# EAGLE library part STM32L476MEY6 (library circuit_tree)
IC
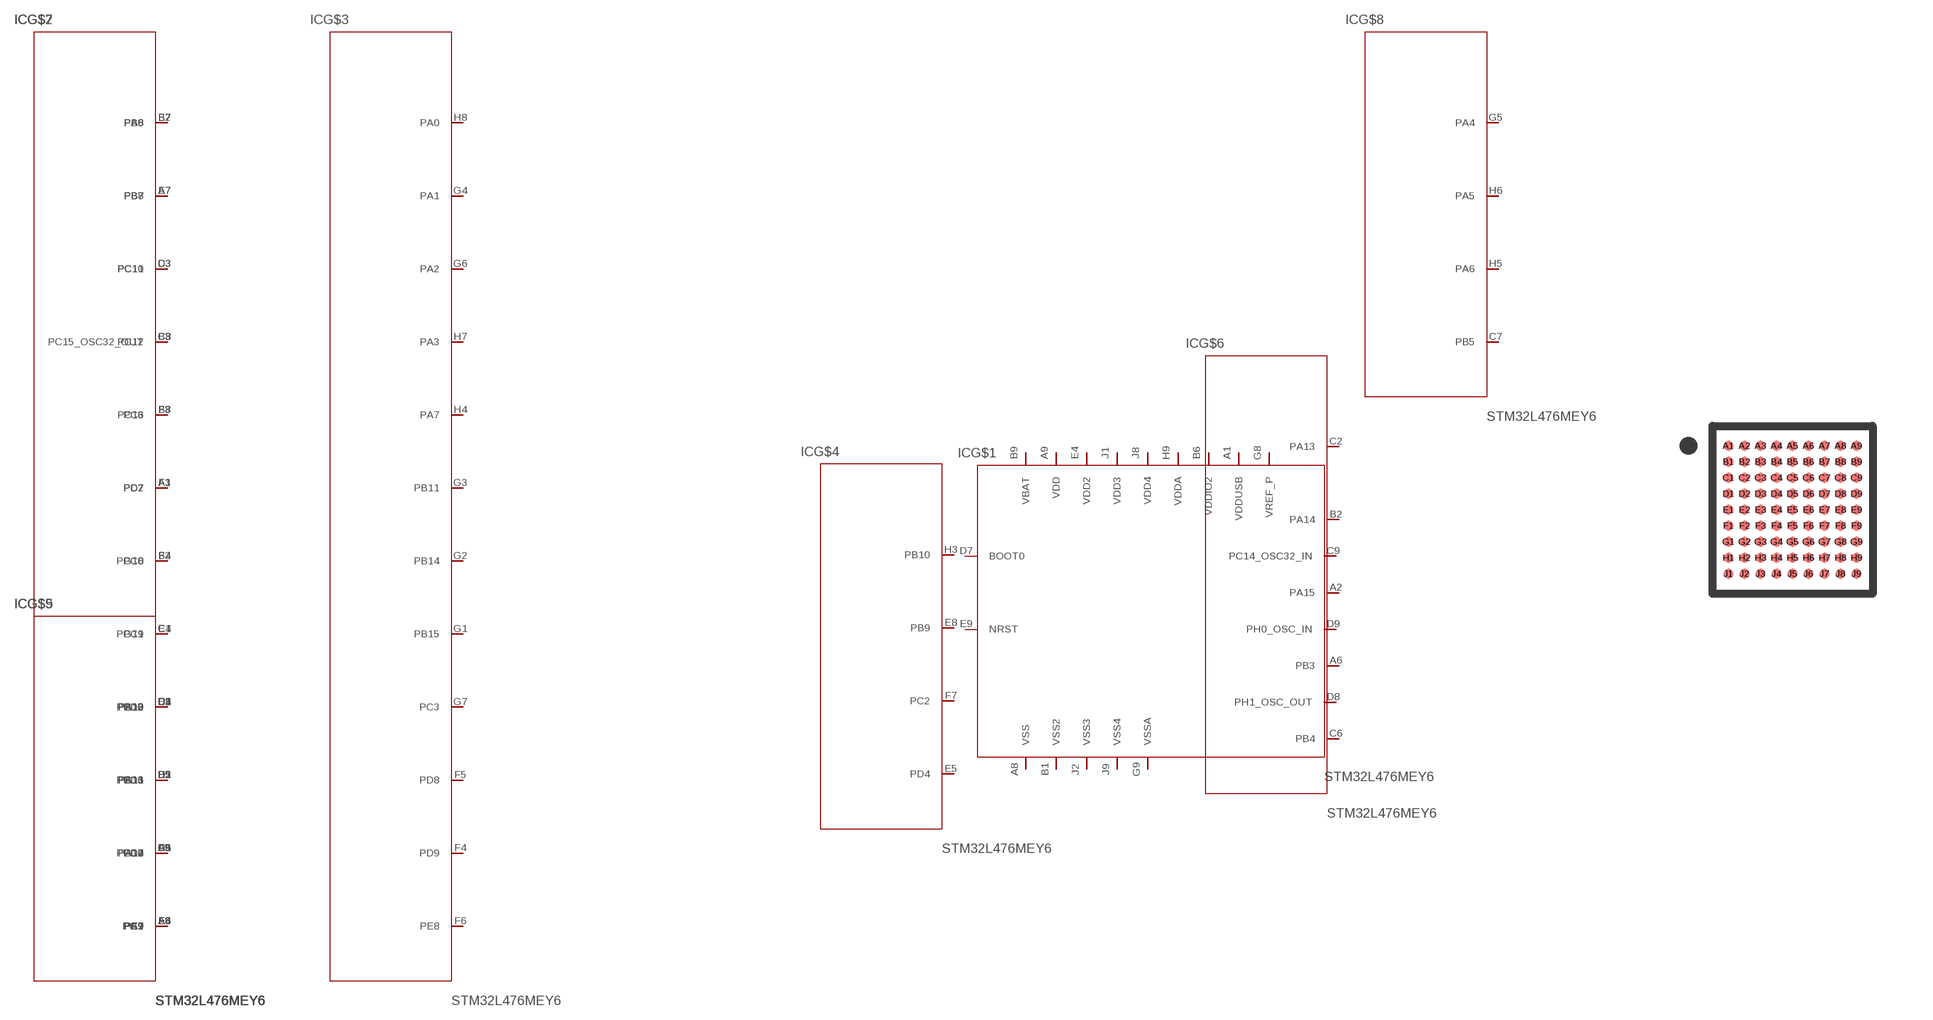
[diagram p6: symbol with the pads of WLCSP81; footprint WLCSP81]

Designator prefix IC; gates G$1=STM32L476MEY6 G$2=STM32L476MEY62 G$3=STM32L476MEY63 G$4=STM32L476MEY64 G$5=STM32L476MEY65 G$6=STM32L476MEY66 G$7=STM32L476MEY67 G$8=STM32L476MEY68 G$9=STM32L476MEY69

## STM32L476MEY6  [WLCSP81]
A1  G$1:VDDUSB  pas
A2  G$6:PA15  pas
A3  G$7:PD2  pas
A4  G$7:PG9  pas
A5  G$7:PG14  pas
A6  G$6:PB3  pas
A7  G$7:PB7  pas
A8  G$1:VSS  pas
A9  G$1:VDD  pas
B1  G$1:VSS2  pas
B2  G$6:PA14  pas
B3  G$7:PC12  pas
B4  G$7:PG10  pas
B5  G$7:PG13  pas
B6  G$1:VDDIO2  pas
B7  G$7:PB6  pas
B8  G$7:PC13  pas
B9  G$1:VBAT  pas
C1  G$9:PA12  pas
C2  G$6:PA13  pas
C3  G$7:PC11  pas
C4  G$7:PG11  pas
C5  G$7:PG12  pas
C6  G$6:PB4  pas
C7  G$8:PB5  pas
C8  G$2:PC15_OSC32_OUT  pas
C9  G$1:PC14_OSC32_IN  pas
D1  G$9:PA11  pas
D2  G$9:PA10  pas
D3  G$2:PC10  pas
D4  G$2:PD5  pas
D5  G$2:PD6  pas
D6  G$2:PD7  pas
D7  G$1:BOOT0  pas
D8  G$1:PH1_OSC_OUT  pas
D9  G$1:PH0_OSC_IN  pas
E1  G$2:PC9  pas
E2  G$2:PA8  pas
E3  G$9:PA9  pas
E4  G$1:VDD2  pas
E5  G$4:PD4  pas
E6  G$2:PE7  pas
E7  G$2:PB8  pas
E8  G$4:PB9  pas
E9  G$1:NRST  pas
F1  G$2:PC7  pas
F2  G$2:PC8  pas
F3  G$2:PC6  pas
F4  G$3:PD9  pas
F5  G$3:PD8  pas
F6  G$3:PE8  pas
F7  G$4:PC2  pas
F8  G$5:PC1  pas
F9  G$5:PC0  pas
G1  G$3:PB15  pas
G2  G$3:PB14  pas
G3  G$3:PB11  pas
G4  G$3:PA1  pas
G5  G$8:PA4  pas
G6  G$3:PA2  pas
G7  G$3:PC3  pas
G8  G$1:VREF_P  pas
G9  G$1:VSSA  pas
H1  G$5:PB12  pas
H2  G$5:PB13  pas
H3  G$4:PB10  pas
H4  G$3:PA7  pas
H5  G$8:PA6  pas
H6  G$8:PA5  pas
H7  G$3:PA3  pas
H8  G$3:PA0  pas
H9  G$1:VDDA  pas
J1  G$1:VDD3  pas
J2  G$1:VSS3  pas
J8  G$1:VDD4  pas
J9  G$1:VSS4  pas

## Footprint WLCSP81 (pad centres in mm)
smd 0.25 x 0.25: A1 -1.6,1.6; A2 -1.2,1.6; A3 -0.8,1.6; A4 -0.4,1.6; A5 0,1.6; A6 0.4,1.6; A7 0.8,1.6; A8 1.2,1.6; A9 1.6,1.6; B1 -1.6,1.2; B2 -1.2,1.2; B3 -0.8,1.2; B4 -0.4,1.2; B5 0,1.2; B6 0.4,1.2; B7 0.8,1.2; B8 1.2,1.2; B9 1.6,1.2; C1 -1.6,0.8; C2 -1.2,0.8; C3 -0.8,0.8; C4 -0.4,0.8; C5 0,0.8; C6 0.4,0.8; C7 0.8,0.8; C8 1.2,0.8; C9 1.6,0.8; D1 -1.6,0.4; D2 -1.2,0.4; D3 -0.8,0.4; D4 -0.4,0.4; D5 0,0.4; D6 0.4,0.4; D7 0.8,0.4; D8 1.2,0.4; D9 1.6,0.4; E1 -1.6,0; E2 -1.2,0; E3 -0.8,0; E4 -0.4,0; E5 0,0; E6 0.4,0; E7 0.8,0; E8 1.2,0; E9 1.6,0; F1 -1.6,-0.4; F2 -1.2,-0.4; F3 -0.8,-0.4; F4 -0.4,-0.4; F5 0,-0.4; F6 0.4,-0.4; F7 0.8,-0.4; F8 1.2,-0.4; F9 1.6,-0.4; G1 -1.6,-0.8; G2 -1.2,-0.8; G3 -0.8,-0.8; G4 -0.4,-0.8; G5 0,-0.8; G6 0.4,-0.8; G7 0.8,-0.8; G8 1.2,-0.8; G9 1.6,-0.8; H1 -1.6,-1.2; H2 -1.2,-1.2; H3 -0.8,-1.2; H4 -0.4,-1.2; H5 0,-1.2; H6 0.4,-1.2; H7 0.8,-1.2; H8 1.2,-1.2; H9 1.6,-1.2; J1 -1.6,-1.6; J2 -1.2,-1.6; J3 -0.8,-1.6; J4 -0.4,-1.6; J5 0,-1.6; J6 0.4,-1.6; J7 0.8,-1.6; J8 1.2,-1.6; J9 1.6,-1.6